# Altium schematic symbol library Buzzer.SchLib: 2 symbols
Pins are listed as number, name and electrical type; pins without a type are passive.

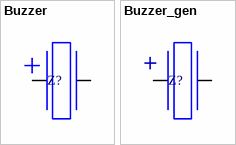
[diagram p0: symbols Buzzer to Buzzer_gen]

## Buzzer
designator Z?
Пьезоизлучатель звуковой без генератора
pins: 1, 2

## Buzzer_gen
designator Z?
Пьезоизлучатель звуковой c генератором
pins: 1, 2